# Altium footprint library SparkFun-IC-Power.PCBLIB: 41 footprints (part 1 of 3)
Each footprint in its own frame and in the unit in brackets; x right, y up, seen from the top. Pads: shape width x height; smd on the part's side, far side on the other; paste and mask are expansions set on the pad; w line width, h text height; cw(c..) or ccw(c..) is an arc to the next point about the centre after c.
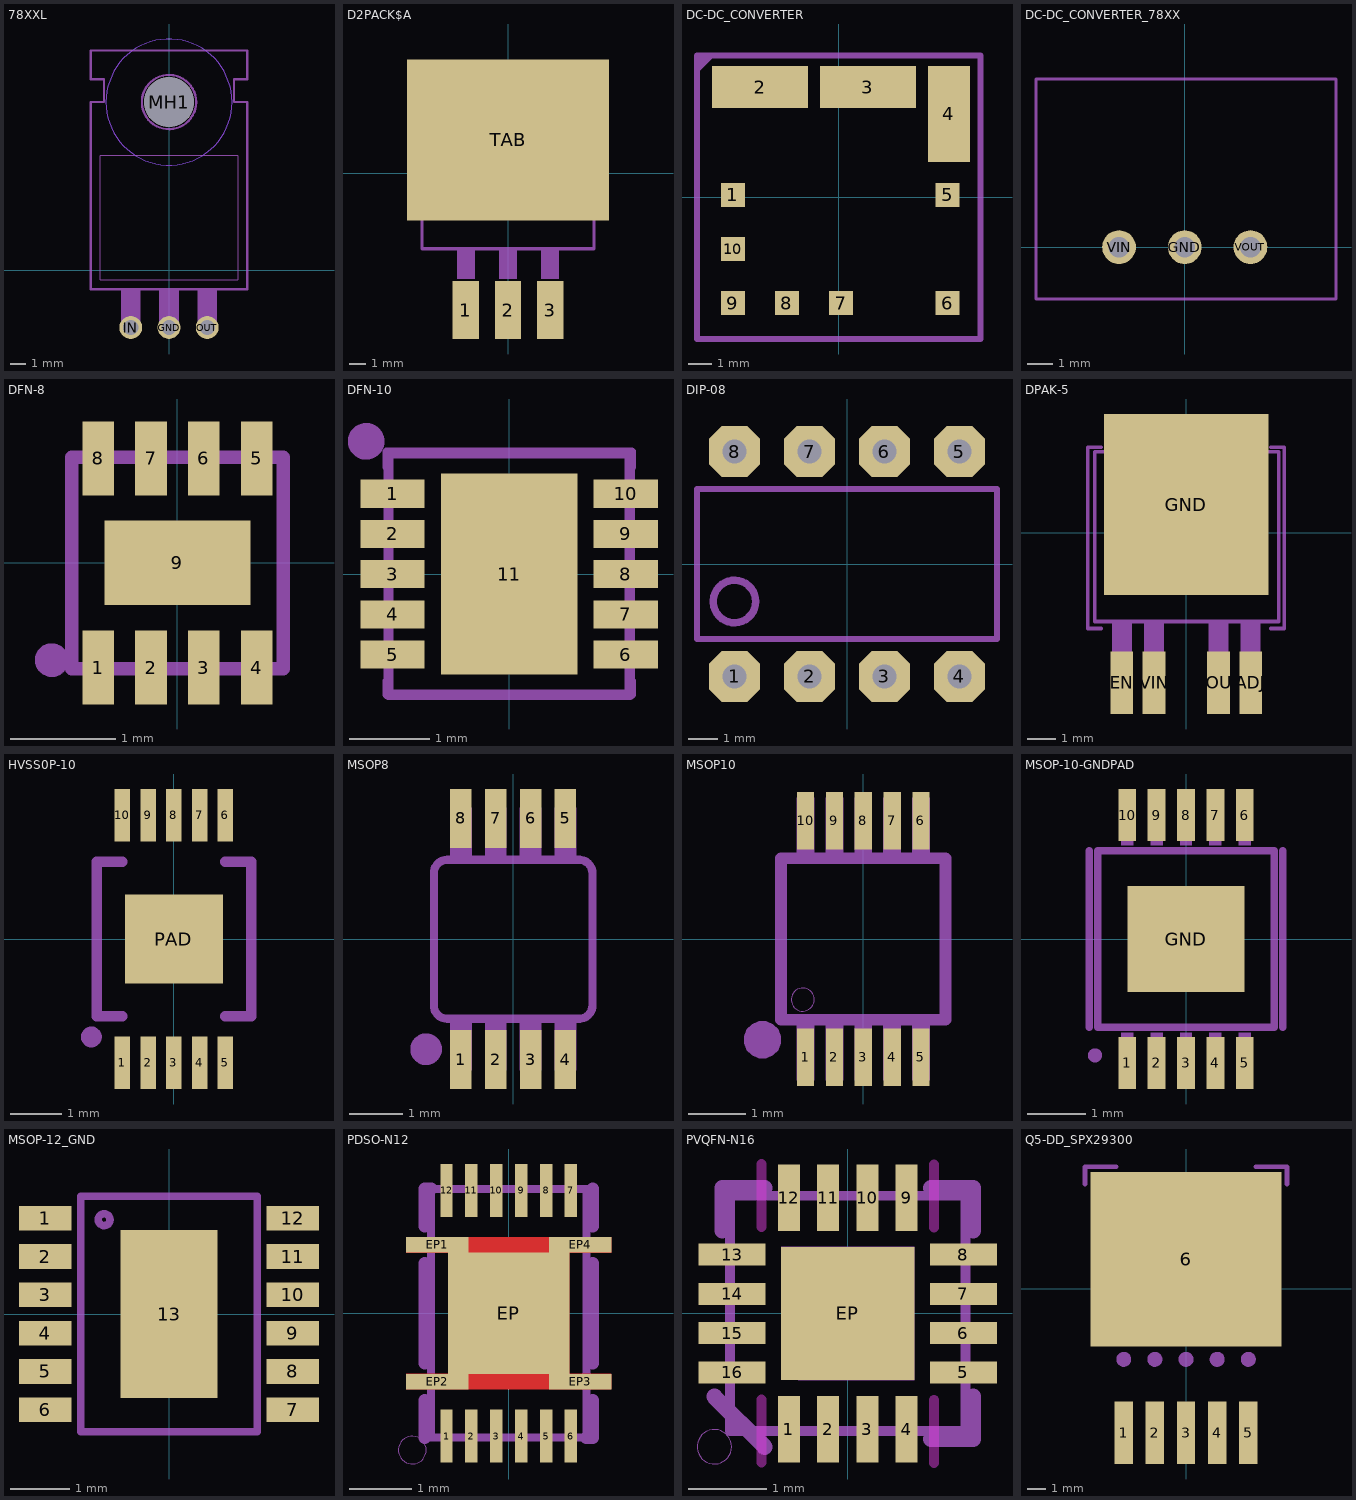
[diagram p0: the footprints below, top view; thin cyan lines are the x and y axes]

## 78XXL [mil]
pads (4):
  round 60 hole 40: GND(0,-150) IN(-100,-150) OUT(100,-150)
  round 130 hole 130 unplated: MH1(0,440)
Top keep-out:
  circle w0: c0,440 r165
Bottom keep-out:
  circle w0: c0,440 r165
tDocu:
  region: 75,-150 75,-85 125,-85 125,-150
  region: -25,-150 -25,-85 25,-85 25,-150
  region: -125,-150 -125,-85 -75,-85 -75,-150
  text "-" at -20,0 h77.5
  text "I" at -120,0 h77.5
  text "O" at 80,0 h77.5
tPlace:
  circle w6: c0,440 r71
  region: 75,-85 75,-50 125,-50 125,-85
  region: -25,-85 -25,-50 25,-50 25,-85
  region: -125,-85 -125,-50 -75,-50 -75,-85
  lines w2: -180,-25 180,-25 180,300 -180,300 -180,-25
  lines w6: -205,-50 205,-50 205,440 170,440 170,500 205,500 205,575 -205,575 -205,500 -170,500 -170,440 -205,440 -205,-50
  text "A15,2mm" at -175,310 h60.45

## D2PACK$A [mm]
pads (4):
  rect 1.6x3.5 smd: 1(-2.54,-8.275) 2(0,-8.275) 3(2.54,-8.275)
  rect 12.2x9.75 smd: TAB(0,2)
tDocu:
  region: -0.525,-9.775 -0.525,-6.575 0.525,-6.575 0.525,-9.775
  region: 2.015,-9.775 2.015,-6.575 3.065,-6.575 3.065,-9.775
  region: -3.065,-9.775 -3.065,-6.575 -2.015,-6.575 -2.015,-9.775
  region: -5.2,4.6 -5.2,5.7 -2.8,6.075 2.8,6.075 5.2,5.7 5.2,4.6
  region: -4.25,-1.925 -4.25,0 -3.6,0 -3.6,3.4 -2.8,3.4 -2.8,6.075 2.8,6.075 2.8,3.4 3.6,3.4 3.6,0 4.25,0 4.25,-1.925
  lines w0.203: -5.2,-4.575 -5.2,4.575 ; 5.2,-4.575 5.2,4.575
tPlace:
  region: -0.525,-6.375 -0.525,-4.475 0.525,-4.475 0.525,-6.375
  region: -3.065,-6.375 -3.065,-4.475 -2.015,-4.475 -2.015,-6.375
  region: 2.015,-6.375 2.015,-4.475 3.065,-4.475 3.065,-6.375
  lines w0.203: -5.2,-3.175 -5.2,-4.575 5.2,-4.575 5.2,-3.175

## DC-DC_CONVERTER [mm]
pads (10):
  rect 1.01x1.01 smd: 1(-4.48,0.1) 5(4.61,0.1) 6(4.61,-4.48) 7(0.1,-4.48) 8(-2.19,-4.48) 9(-4.48,-4.48) 10(-4.48,-2.19)
  rect 4.07x1.77 smd: 2(-3.33,4.67) 3(1.24,4.67)
  rect 1.77x4.07 smd: 4(4.67,3.53)
tDocu:
  lines w0.25: -6,-6 6,-6 6,6 -6,6 -6,-6
tPlace:
  lines w0.178: -5.918,5.436 -5.41,5.944 ; -5.973,-5.973 5.973,-5.973 5.973,5.973 -5.973,5.973 -5.973,-5.973
  lines w0.254: -5.918,5.69 -5.69,5.918

## DC-DC_CONVERTER_78XX [mil]
pads (3):
  round 51.5 hole 31.5: GND(0,0) VIN(-100,0) VOUT(100,0)
tDocu:
  region: -113.8,-4.98 -113.8,4.86 -86.24,4.86 -86.24,-4.98
  region: -13.8,-4.98 -13.8,4.86 13.76,4.86 13.76,-4.98
  region: 86.2,-4.98 86.2,4.86 113.76,4.86 113.76,-4.98
tPlace:
  lines w5: -226.4,-78.8 -226.4,255.85 230.29,255.85 230.29,-78.8 -226.4,-78.8

## DFN-8 [mm]
pads (9):
  rect 0.3x0.7 smd paste+0 mask+0: 1(-0.75,-0.99) 2(-0.25,-0.99) 3(0.25,-0.99) 4(0.75,-0.99) 5(0.75,0.99) 6(0.25,0.99) 7(-0.25,0.99) 8(-0.75,0.99)
  rect 1.38x0.8 smd paste+0 mask+0: 9(0,0)
Top Paste:
  region: -0.875,-1.338 -0.875,-0.7 -0.625,-0.7 -0.625,-1.338
  region: -0.375,0.7 -0.375,1.338 -0.125,1.338 -0.125,0.7
  region: -0.875,0.7 -0.875,1.338 -0.625,1.338 -0.625,0.7
  region: 0.125,0.7 0.125,1.338 0.375,1.338 0.375,0.7
  region: 0.625,0.7 0.625,1.338 0.875,1.338 0.875,0.7
  region: -0.375,-1.338 -0.375,-0.7 -0.125,-0.7 -0.125,-1.338
  region: 0.125,-1.338 0.125,-0.7 0.375,-0.7 0.375,-1.338
  region: 0.625,-1.338 0.625,-0.7 0.875,-0.7 0.875,-1.338
  region: 0.09,-0.32 0.09,0.32 0.59,0.32 0.59,-0.32
  region: -0.59,-0.32 -0.59,0.32 -0.09,0.32 -0.09,-0.32
Top Solder:
  region: -0.97,0.57 -0.97,1.41 -0.53,1.41 -0.53,0.57
  region: -0.47,0.57 -0.47,1.41 -0.03,1.41 -0.03,0.57
  region: 0.03,0.57 0.03,1.41 0.47,1.41 0.47,0.57
  region: 0.53,0.57 0.53,1.41 0.97,1.41 0.97,0.57
  region: 0.53,-1.43 0.53,-0.59 0.97,-0.59 0.97,-1.43
  region: 0.03,-1.43 0.03,-0.59 0.47,-0.59 0.47,-1.43
  region: -0.47,-1.43 -0.47,-0.59 -0.03,-0.59 -0.03,-1.43
  region: -0.97,-1.43 -0.97,-0.59 -0.53,-0.59 -0.53,-1.43
  region: -0.76,-0.47 -0.76,0.47 0.76,0.47 0.76,-0.47
tDocu:
  lines w0.127: -1,-1 1,-1 1,1 -1,1 -1,-1
tPlace:
  circle w0.178: c-1.19,-0.92 r0.071

## DFN-10 [mm]
pads (11):
  rect 0.8x0.35 smd paste+0: 1(-1.45,1) 2(-1.45,0.5) 3(-1.45,0) 4(-1.45,-0.5) 5(-1.45,-1) 6(1.45,-1) 7(1.45,-0.5) 8(1.45,0) 9(1.45,0.5) 10(1.45,1)
  rect 1.7x2.5 smd paste+0: 11(0,0)
Top Paste:
  region: -1.699,-0.13 -1.699,0.13 -1.1,0.13 -1.1,-0.13
  region: -1.699,0.37 -1.699,0.63 -1.1,0.63 -1.1,0.37
  region: -1.699,0.87 -1.699,1.13 -1.1,1.13 -1.1,0.87
  region: -1.699,-0.63 -1.699,-0.37 -1.1,-0.37 -1.1,-0.63
  region: -1.699,-1.13 -1.699,-0.87 -1.1,-0.87 -1.1,-1.13
  region: 1.699,-0.87 1.699,-1.13 1.1,-1.13 1.1,-0.87
  region: 1.699,-0.37 1.699,-0.63 1.1,-0.63 1.1,-0.37
  region: 1.699,0.13 1.699,-0.13 1.1,-0.13 1.1,0.13
  region: 1.699,0.63 1.699,0.37 1.1,0.37 1.1,0.63
  region: 1.699,1.13 1.699,0.87 1.1,0.87 1.1,1.13
  region: -0.5,-1 -0.5,1 0.5,1 0.5,-1
tDocu:
  drawing of 15 lines, arcs and shapes, not listed
tPlace:
  circle w0.254: c-1.778,1.651 r0.102
  lines w0.102: -1.524,-1.33 -1.524,-1.5 -0.5,-1.5 1.524,-1.5 1.524,-1.33 ; -1.524,1.33 -1.524,1.524 1.524,1.524 1.524,1.33

## DIP-08 [mil]
pads (8):
  oct 68x68 / inner round 62.82 / far side oct 68x68 hole 32: 1(-150,-150) 2(-50,-150) 3(50,-150) 4(150,-150) 5(150,150) 6(50,150) 7(-50,150) 8(-150,150)
tPlace:
  circle w10: c-150,-50 r28.28
  lines w8: -200,-40 -200,-60 ; -200,-60 -200,100 200,100 200,-100 -200,-100 -200,-60

## DPAK-5 [mil]
pads (5):
  rect 31.5x86.61 smd: ADJ(89.76,-208.66) EN(-89.76,-208.66) VIN(-44.88,-208.66) VOUT(44.88,-208.66)
  rect 228.35x251.97 smd: GND(0,39.37)
tDocu:
  region: -103.15,-228.35 -103.15,-122.05 -75.59,-122.05 -75.59,-228.35
  region: -58.66,-228.35 -58.66,-122.05 -31.1,-122.05 -31.1,-228.35
  region: 31.1,-227.95 31.1,-121.65 58.66,-121.65 58.66,-227.95
  region: 75.59,-227.95 75.59,-121.65 103.15,-121.65 103.15,-227.95
  lines w5: 90.16,113.39 90.16,141.73 80.32,151.57 -77.17,151.57 -87.01,141.73 -87.01,112.99 ; -87.01,112.99 128.35,112.99 128.35,-123.23 -127.56,-123.23 -127.56,112.99 -87.01,112.99
tPlace:
  circle w10: c-89.37,-137.8 r3.94
  circle w10: c-45.67,-137.8 r3.94
  circle w10: c44.09,-137.8 r3.94
  circle w10: c87.8,-137.8 r3.94
  lines w5: -121.65,119.29 -137.01,119.29 ; -118.11,-133.07 -137.01,-133.07 -137.01,119.29 ; -118.11,119.29 -137.01,119.29 ; 117.32,-133.07 136.22,-133.07 ; 117.32,119.29 136.22,119.29 136.22,-133.07 ; 120.87,-133.07 136.22,-133.07

## HVSS0P-10 [mm]
pads (11):
  rect 0.3x1.02 smd: 1(-1,-2.4) 2(-0.5,-2.4) 3(0,-2.4) 4(0.5,-2.4) 5(1,-2.4) 6(1,2.4) 7(0.5,2.4) 8(0,2.4) 9(-0.5,2.4) 10(-1,2.4)
  rect 1.905x1.727 smd: PAD(0,0)
tPlace:
  circle w0.203: c-1.6,-1.9 r0.1
  lines w0.203: -1,-1.5 -1.5,-1.5 -1.5,1.5 -1,1.5 ; 1,-1.5 1.5,-1.5 1.5,1.5 1,1.5

## MSOP8 [mm]
pads (8):
  rect 0.4x1.1 smd: 1(-0.975,-2.25) 2(-0.325,-2.25) 3(0.325,-2.25) 4(0.975,-2.25) 5(0.975,2.25) 6(0.325,2.25) 7(-0.325,2.25) 8(-0.975,2.25)
tDocu:
  region: -1.175,-2.45 -1.175,-1.55 -0.775,-1.55 -0.775,-2.45
  region: -0.525,-2.45 -0.525,-1.55 -0.125,-1.55 -0.125,-2.45
  region: 0.125,-2.45 0.125,-1.55 0.525,-1.55 0.525,-2.45
  region: 0.775,-2.45 0.775,-1.55 1.175,-1.55 1.175,-2.45
  region: 0.775,1.55 0.775,2.45 1.175,2.45 1.175,1.55
  region: 0.125,1.55 0.125,2.45 0.525,2.45 0.525,1.55
  region: -0.525,1.55 -0.525,2.45 -0.125,2.45 -0.125,1.55
  region: -1.175,1.55 -1.175,2.45 -0.775,2.45 -0.775,1.55
tPlace:
  circle w0.406: c-1.626,-2.057 r0.092
  lines w0.152: -1.48,-1.24 ccw(c-1.23,-1.24) -1.23,-1.49 ; -1.48,-1.23 -1.48,1.23 cw(c-1.23,1.23) -1.23,1.48 ; -1.22,-1.49 1.24,-1.49 ; -1.22,1.48 1.24,1.48 ; 1.23,-1.49 ccw(c1.23,-1.24) 1.48,-1.24 1.48,1.23 ccw(c1.23,1.23) 1.23,1.48

## MSOP10 [mm]
pads (10):
  rect 0.3x1 smd paste+0 mask+0: 1(-1,-2.05) 2(-0.5,-2.05) 3(0,-2.05) 4(0.5,-2.05) 5(1,-2.05) 6(1,2.05) 7(0.5,2.05) 8(0,2.05) 9(-0.5,2.05) 10(-1,2.05)
Top Paste:
  region: -1.125,-2.5 -1.125,-1.625 -0.875,-1.625 -0.875,-2.5
  region: -0.625,-2.5 -0.625,-1.625 -0.375,-1.625 -0.375,-2.5
  region: -0.125,-2.5 -0.125,-1.625 0.125,-1.625 0.125,-2.5
  region: 0.375,-2.5 0.375,-1.625 0.625,-1.625 0.625,-2.5
  region: 0.875,-2.5 0.875,-1.625 1.125,-1.625 1.125,-2.5
  region: 1.125,2.5 1.125,1.625 0.875,1.625 0.875,2.5
  region: 0.625,2.5 0.625,1.625 0.375,1.625 0.375,2.5
  region: 0.125,2.5 0.125,1.625 -0.125,1.625 -0.125,2.5
  region: -0.375,2.5 -0.375,1.625 -0.625,1.625 -0.625,2.5
  region: -0.875,2.5 -0.875,1.625 -1.125,1.625 -1.125,2.5
Top Solder:
  region: -1.2,-2.6 -1.2,-1.5 -0.8,-1.5 -0.8,-2.6
  region: -0.7,-2.6 -0.7,-1.5 -0.3,-1.5 -0.3,-2.6
  region: -0.2,-2.6 -0.2,-1.5 0.2,-1.5 0.2,-2.6
  region: 0.3,-2.6 0.3,-1.5 0.7,-1.5 0.7,-2.6
  region: 0.8,-2.6 0.8,-1.5 1.2,-1.5 1.2,-2.6
  region: 1.2,2.6 1.2,1.5 0.8,1.5 0.8,2.6
  region: 0.7,2.6 0.7,1.5 0.3,1.5 0.3,2.6
  region: 0.2,2.6 0.2,1.5 -0.2,1.5 -0.2,2.6
  region: -0.3,2.6 -0.3,1.5 -0.7,1.5 -0.7,2.6
  region: -0.8,2.6 -0.8,1.5 -1.2,1.5 -1.2,2.6
tDocu:
  region: -1.15,-2.45 -1.15,-1.475 -0.85,-1.475 -0.85,-2.45
  region: -0.65,-2.45 -0.65,-1.475 -0.35,-1.475 -0.35,-2.45
  region: -0.15,-2.45 -0.15,-1.475 0.15,-1.475 0.15,-2.45
  region: 0.35,-2.45 0.35,-1.475 0.65,-1.475 0.65,-2.45
  region: 0.85,-2.45 0.85,-1.475 1.15,-1.475 1.15,-2.45
  region: 1.15,2.45 1.15,1.475 0.85,1.475 0.85,2.45
  region: 0.65,2.45 0.65,1.475 0.35,1.475 0.35,2.45
  region: 0.15,2.45 0.15,1.475 -0.15,1.475 -0.15,2.45
  region: -0.35,2.45 -0.35,1.475 -0.65,1.475 -0.65,2.45
  region: -0.85,2.45 -0.85,1.475 -1.15,1.475 -1.15,2.45
  lines w0.203: -1.425,-1.4 1.425,-1.4 ; -1.425,1.4 1.425,1.4
tPlace:
  circle w0: c-1.05,-1.05 r0.2
  region: -1.429,-1.746 -1.429,-1.683 -1.477,-1.566 -1.566,-1.477 -1.683,-1.429 -1.746,-1.429 -1.809,-1.429 -1.926,-1.477 -2.015,-1.566 -2.064,-1.683 -2.064,-1.746 -2.064,-1.809 -2.015,-1.926 -1.926,-2.015 -1.809,-2.064 -1.746,-2.064 -1.683,-2.064 -1.566,-2.015 -1.477,-1.926 -1.429,-1.809 -1.429,-1.746
  lines w0.203: -1.425,-1.4 -1.425,1.4 ; 1.425,-1.4 1.425,1.4

## MSOP-10-GNDPAD [mil]
pads (11):
  rect 12.01x35 smd: 1(-39.37,-83.05) 2(-19.69,-83.05) 3(0,-83.05) 4(19.69,-83.05) 5(39.37,-83.05) 6(39.37,83.05) 7(19.69,83.05) 8(0,83.05) 9(-19.69,83.05) 10(-39.37,83.05)
  rect 78.74x70.87 smd paste+0: GND(0,0)
Top Paste:
  region: -19.69,-19.69 -19.69,19.69 19.69,19.69 19.69,-19.69
tDocu:
  region: -43.31,62.99 -43.31,96.46 -35.43,96.46 -35.43,62.99
  region: -23.62,62.99 -23.62,96.46 -15.75,96.46 -15.75,62.99
  region: -3.94,62.99 -3.94,96.46 3.94,96.46 3.94,62.99
  region: 15.75,62.99 15.75,96.46 23.62,96.46 23.62,62.99
  region: 35.43,62.99 35.43,96.46 43.31,96.46 43.31,62.99
  region: -43.31,-96.46 -43.31,-62.99 -35.43,-62.99 -35.43,-96.46
  region: -23.62,-96.46 -23.62,-62.99 -15.75,-62.99 -15.75,-96.46
  region: -3.94,-96.46 -3.94,-62.99 3.94,-62.99 3.94,-96.46
  region: 15.75,-96.46 15.75,-62.99 23.62,-62.99 23.62,-96.46
  region: 35.43,-96.46 35.43,-62.99 43.31,-62.99 43.31,-96.46
  lines w5: -59.06,-59.06 -59.06,59.06 59.06,59.06 59.06,-59.06 -59.06,-59.06
tPlace:
  circle w5: c-61,-78 r2.23
  lines w5: -64.99,-59.06 -64.99,59.06 ; 64.99,-59.06 64.99,59.06

## MSOP-12_GND [mil]
pads (13):
  rect 35x16.54 smd: 1(-82.68,63.98) 2(-82.68,38.39) 3(-82.68,12.8) 4(-82.68,-12.8) 5(-82.68,-38.39) 6(-82.68,-63.98) 7(82.68,-63.98) 8(82.68,-38.39) 9(82.68,-12.8) 10(82.68,12.8) 11(82.68,38.39) 12(82.68,63.98)
  rect 65x112.01 smd paste+0: 13(0,0)
Top Paste:
  region: -27.56,7.87 -27.56,51.18 -3.94,51.18 -3.94,7.87
  region: 3.94,7.87 3.94,51.18 27.56,51.18 27.56,7.87
  region: 3.94,-51.18 3.94,-7.87 27.56,-7.87 27.56,-51.18
  region: -27.56,-51.18 -27.56,-7.87 -3.94,-7.87 -3.94,-51.18
tPlace:
  circle w5: c-43.31,62.99 r3.94
  lines w5: -59.06,-78.74 -59.06,78.74 59.06,78.74 59.06,-78.74 -59.06,-78.74

## PDSO-N12 [mm]
pads (17):
  rect 0.2x0.85 smd paste+0: 1(-1,-1.975) 2(-0.6,-1.975) 3(-0.2,-1.975) 4(0.2,-1.975) 5(0.6,-1.975) 6(1,-1.975) 7(1,1.975) 8(0.6,1.975) 9(0.2,1.975) 10(-0.2,1.975) 11(-0.6,1.975) 12(-1,1.975)
  rect 1.95x1.95 smd paste+0: EP(0,0)
  rect 1x0.25 smd paste+0: EP1(-1.15,1.1) EP2(-1.15,-1.1) EP3(1.15,-1.1) EP4(1.15,1.1)
Top:
  region: 1.65,1.225 -1.65,1.225 -1.65,0.975 -0.975,0.975 -0.975,-0.975 -1.65,-0.975 -1.65,-1.225 1.65,-1.225 1.65,-0.975 0.975,-0.975 0.975,0.975 1.65,0.975
Top Paste:
  region: -0.9,0.1 -0.9,1.1 -0.1,1.1 -0.1,0.1
  region: 0.9,-0.1 0.9,-1.1 0.1,-1.1 0.1,-0.1
  region: 0.9,1.1 0.9,0.1 0.1,0.1 0.1,1.1
  region: -0.9,-1.1 -0.9,-0.1 -0.1,-0.1 -0.1,-1.1
  region: -1.625,0.975 -1.625,1.225 -1.1,1.225 -1.1,0.975
  region: 1.625,-0.975 1.625,-1.225 1.1,-1.225 1.1,-0.975
  region: 1.625,1.225 1.625,0.975 1.1,0.975 1.1,1.225
  region: -1.625,-1.225 -1.625,-0.975 -1.1,-0.975 -1.1,-1.225
  region: 0.1,1.575 0.1,2.375 0.3,2.375 0.3,1.575
  region: 0.5,1.575 0.5,2.375 0.7,2.375 0.7,1.575
  region: 0.5,1.575 0.5,2.375 0.7,2.375 0.7,1.575
  region: 0.9,1.575 0.9,2.375 1.1,2.375 1.1,1.575
  region: -0.3,1.575 -0.3,2.375 -0.1,2.375 -0.1,1.575
  region: -0.7,1.575 -0.7,2.375 -0.5,2.375 -0.5,1.575
  region: -1.1,1.575 -1.1,2.375 -0.9,2.375 -0.9,1.575
  region: -0.9,-1.575 -0.9,-2.375 -1.1,-2.375 -1.1,-1.575
  region: -0.5,-1.575 -0.5,-2.375 -0.7,-2.375 -0.7,-1.575
  region: -0.1,-1.575 -0.1,-2.375 -0.3,-2.375 -0.3,-1.575
  region: 0.3,-1.575 0.3,-2.375 0.1,-2.375 0.1,-1.575
  region: 0.7,-1.575 0.7,-2.375 0.5,-2.375 0.5,-1.575
  region: 1.1,-1.575 1.1,-2.375 0.9,-2.375 0.9,-1.575
Top Solder:
  region: -1.75,0.875 -1.75,1.325 1.75,1.325 1.75,0.875
  region: 1.75,-0.875 1.75,-1.325 -1.75,-1.325 -1.75,-0.875
tDocu:
  lines w0.127: -1.25,-2 -1.25,2 1.25,2 1.25,-2 -1.25,-2
tPlace:
  circle w0: c-1.55,-2.2 r0.224
  lines w0.127: -1.35,-2 -1.25,-2 ; 1.25,2 1.35,2
  lines w0.203: -1.35,-2 -1.35,-1.4 ; -1.35,-0.8 -1.35,0.8 ; -1.35,1.4 -1.35,2 -1.25,2 ; 1.25,-2 1.35,-2 1.35,-1.4 ; 1.35,-0.8 1.35,0.8 ; 1.35,1.4 1.35,2

## PVQFN-N16 [mm]
pads (17):
  rect 0.28x0.85 smd paste+0: 1(-0.75,-1.475) 2(-0.25,-1.475) 3(0.25,-1.475) 4(0.75,-1.475) 9(0.75,1.475) 10(0.25,1.475) 11(-0.25,1.475) 12(-0.75,1.475)
  rect 0.85x0.28 smd paste+0: 5(1.475,-0.75) 6(1.475,-0.25) 7(1.475,0.25) 8(1.475,0.75) 13(-1.475,0.75) 14(-1.475,0.25) 15(-1.475,-0.25) 16(-1.475,-0.75)
  rect 1.7x1.7 smd paste+0: EP(0,0)
Top keep-out:
  lines w0.127: -1.1,-1.9 -1.1,-1.095 ; -1.1,1.1 -1.1,1.905 ; 1.1,-1.905 1.1,-1.1 ; 1.1,1.095 1.1,1.9
Top Paste:
  region: -0.865,-1.875 -0.865,-1.075 -0.635,-1.075 -0.635,-1.875
  region: -0.365,-1.875 -0.365,-1.075 -0.135,-1.075 -0.135,-1.875
  region: 0.135,-1.875 0.135,-1.075 0.365,-1.075 0.365,-1.875
  region: 0.635,-1.875 0.635,-1.075 0.865,-1.075 0.865,-1.875
  region: 1.875,-0.865 1.075,-0.865 1.075,-0.635 1.875,-0.635
  region: 1.875,-0.365 1.075,-0.365 1.075,-0.135 1.875,-0.135
  region: 1.875,0.135 1.075,0.135 1.075,0.365 1.875,0.365
  region: 1.875,0.635 1.075,0.635 1.075,0.865 1.875,0.865
  region: 0.865,1.875 0.865,1.075 0.635,1.075 0.635,1.875
  region: 0.365,1.875 0.365,1.075 0.135,1.075 0.135,1.875
  region: -0.135,1.875 -0.135,1.075 -0.365,1.075 -0.365,1.875
  region: -0.635,1.875 -0.635,1.075 -0.865,1.075 -0.865,1.875
  region: -1.875,0.865 -1.075,0.865 -1.075,0.635 -1.875,0.635
  region: -1.875,0.365 -1.075,0.365 -1.075,0.135 -1.875,0.135
  region: -1.875,-0.135 -1.075,-0.135 -1.075,-0.365 -1.875,-0.365
  region: -1.875,-0.635 -1.075,-0.635 -1.075,-0.865 -1.875,-0.865
  region: 0.1,0.1 0.1,0.8 0.8,0.8 0.8,0.1
  region: -0.1,-0.1 -0.1,-0.8 -0.8,-0.8 -0.8,-0.1
  region: -0.1,0.1 -0.8,0.1 -0.8,0.8 -0.1,0.8
  region: 0.1,-0.1 0.8,-0.1 0.8,-0.8 0.1,-0.8
tDocu:
  drawing of 21 lines, arcs and shapes, not listed
tPlace:
  circle w0: c-1.7,-1.7 r0.219
  lines w0.203: -1.7,-1.06 -1.06,-1.7 ; -1.6,1.06 -1.6,1.6 -1.06,1.6 ; 1.06,-1.6 1.6,-1.6 1.6,-1.06 ; 1.06,1.6 1.6,1.6 1.6,1.06

## Q5-DD_SPX29300 [mm]
pads (6):
  rect 1x3.4 smd: 1(-3.4,-7.875) 2(-1.7,-7.875) 3(0,-7.875) 4(1.7,-7.875) 5(3.4,-7.875)
  rect 10.414x9.525 smd paste+0: 6(0,1.595)
Top Paste:
  region: -3.81,2.54 -3.81,5.08 -1.27,5.08 -1.27,2.54
  region: 1.27,2.54 1.27,5.08 3.81,5.08 3.81,2.54
  region: 1.27,-2.54 1.27,0 3.81,0 3.81,-2.54
  region: -3.81,-2.54 -3.81,0 -1.27,0 -1.27,-2.54
tPlace:
  circle w0.406: c-3.4,-3.861 r0.205
  circle w0.406: c-1.7,-3.861 r0.205
  circle w0.406: c0,-3.861 r0.205
  circle w0.406: c1.7,-3.861 r0.205
  circle w0.406: c3.4,-3.861 r0.205
  lines w0.254: -5.512,5.69 -5.512,6.655 -3.81,6.655 ; 3.81,6.655 5.512,6.655 5.512,5.69